# Altium footprint library TO225P1040X460X1968-3.PcbLib: 1 footprints
Each footprint in its own frame and in the unit in brackets; x right, y up, seen from the top. Pads: shape width x height; smd on the part's side, far side on the other; paste and mask are expansions set on the pad; w line width, h text height; cw(c..) or ccw(c..) is an arc to the next point about the centre after c.
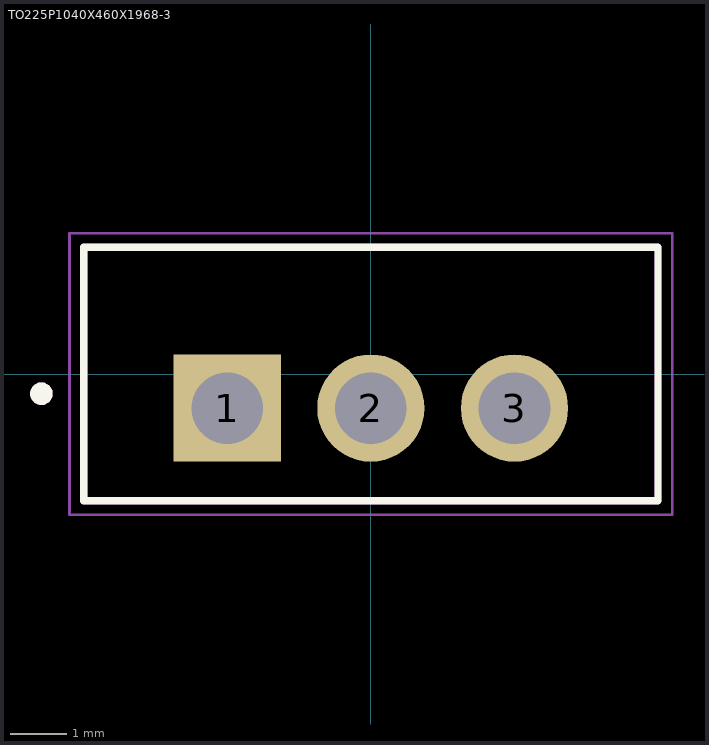
[diagram p0: the footprint, top view; thin cyan lines are the x and y axes]

## TO225P1040X460X1968-3 [mm]
pads (3):
  rect 1.905x1.905 / inner round 1.905 / far side rect 1.905x1.905 hole 1.27: 1(-2.55,-0.605)
  round 1.905 hole 1.27: 2(0,-0.605) 3(2.55,-0.605)
Top Overlay:
  circle w0.2: c-5.85,-0.35 r0.1
  lines w0.127: -5.1,-2.25 5.1,-2.25 5.1,2.25 -5.1,2.25 -5.1,-2.25
Mechanical 13:
  circle w0.2: c-5.85,-0.35 r0.1
  lines w0.127: -5.1,-2.25 5.1,-2.25 5.1,2.25 -5.1,2.25 -5.1,-2.25
Mechanical 15:
  lines w0.05: -5.35,-2.5 5.35,-2.5 5.35,2.5 -5.35,2.5 -5.35,-2.5
3D body "step_temp.STEP": height 22.22, standoff -8.36, extent -5.15,-2.286 5.15,2.286